# Altium schematic symbol library ADP2300.Schlib: 1 symbol
Pins are listed as number, name and electrical type; pins without a type are passive.

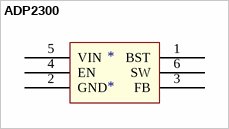
[diagram p0: symbol ADP2300]

## ADP2300
designator *
pins: 1 BST, 2 GND, 3 FB, 4 EN, 5 VIN, 6 SW